# Altium footprint library M50-3000745.PcbLib: 1 footprints
Each footprint in its own frame and in the unit in brackets; x right, y up, seen from the top. Pads: shape width x height; smd on the part's side, far side on the other; paste and mask are expansions set on the pad; w line width, h text height; cw(c..) or ccw(c..) is an arc to the next point about the centre after c.
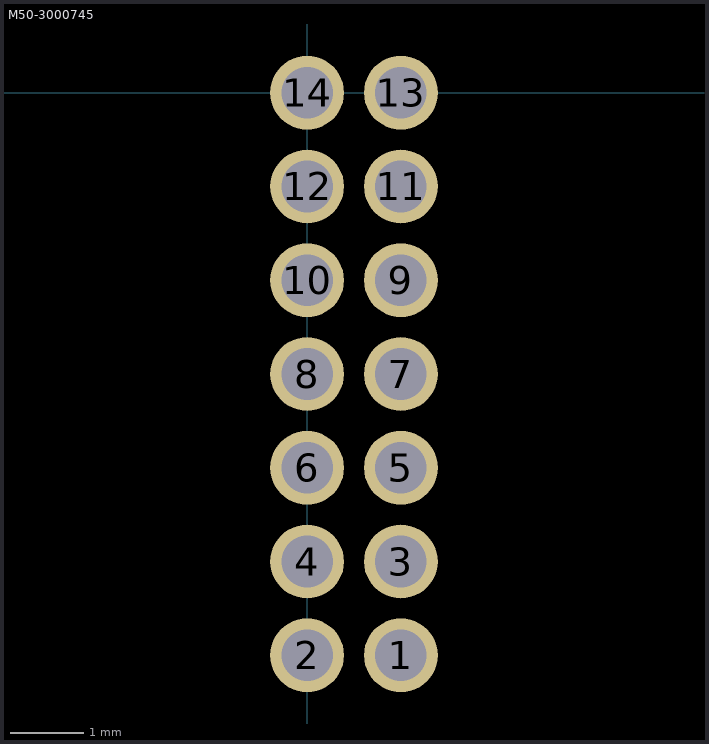
[diagram p0: the footprint, top view; thin cyan lines are the x and y axes]

## M50-3000745 [mm] "14 POS 1.27MM TH SKT/HDR"
pads (14):
  round 1 hole 0.7: 1(1.27,-7.62) 2(0,-7.62) 3(1.27,-6.35) 4(0,-6.35) 5(1.27,-5.08) 6(0,-5.08) 7(1.27,-3.81) 8(0,-3.81) 9(1.27,-2.54) 10(0,-2.54) 11(1.27,-1.27) 12(0,-1.27) 13(1.27,0) 14(0,0)